# Altium footprint library LQFP.PcbLib: 4 footprints
Each footprint in its own frame and in the unit in brackets; x right, y up, seen from the top. Pads: shape width x height; smd on the part's side, far side on the other; paste and mask are expansions set on the pad; w line width, h text height; cw(c..) or ccw(c..) is an arc to the next point about the centre after c.
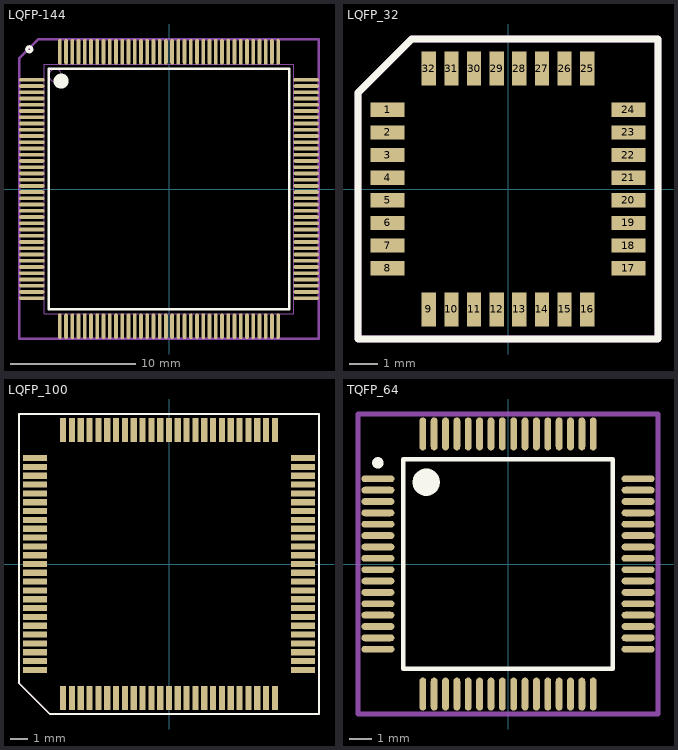
[diagram p0: the footprints below, top view; thin cyan lines are the x and y axes]

## LQFP-144 [mm]
height 2.45
pads (144):
  oval 2.05x0.3 smd: 1(-11,8.75) 2(-11,8.25) 3(-11,7.75) 4(-11,7.25) 5(-11,6.75) 6(-11,6.25) 7(-11,5.75) 8(-11,5.25) 9(-11,4.75) 10(-11,4.25) 11(-11,3.75) 12(-11,3.25) 13(-11,2.75) 14(-11,2.25) 15(-11,1.75) 16(-11,1.25) 17(-11,0.75) 18(-11,0.25) 19(-11,-0.25) 20(-11,-0.75) 21(-11,-1.25) 22(-11,-1.75) 23(-11,-2.25) 24(-11,-2.75) 25(-11,-3.25) 26(-11,-3.75) 27(-11,-4.25) 28(-11,-4.75) 29(-11,-5.25) 30(-11,-5.75) 31(-11,-6.25) 32(-11,-6.75) 33(-11,-7.25) 34(-11,-7.75) 35(-11,-8.25) 36(-11,-8.75) 73(11,-8.75) 74(11,-8.25) 75(11,-7.75) 76(11,-7.25) 77(11,-6.75) 78(11,-6.25) 79(11,-5.75) 80(11,-5.25) 81(11,-4.75) 82(11,-4.25) 83(11,-3.75) 84(11,-3.25) 85(11,-2.75) 86(11,-2.25) 87(11,-1.75) 88(11,-1.25) 89(11,-0.75) 90(11,-0.25) 91(11,0.25) 92(11,0.75) 93(11,1.25) 94(11,1.75) 95(11,2.25) 96(11,2.75) 97(11,3.25) 98(11,3.75) 99(11,4.25) 100(11,4.75) 101(11,5.25) 102(11,5.75) 103(11,6.25) 104(11,6.75) 105(11,7.25) 106(11,7.75) 107(11,8.25) 108(11,8.75)
  oval 0.3x2.05 smd: 37(-8.75,-11) 38(-8.25,-11) 39(-7.75,-11) 40(-7.25,-11) 41(-6.75,-11) 42(-6.25,-11) 43(-5.75,-11) 44(-5.25,-11) 45(-4.75,-11) 46(-4.25,-11) 47(-3.75,-11) 48(-3.25,-11) 49(-2.75,-11) 50(-2.25,-11) 51(-1.75,-11) 52(-1.25,-11) 53(-0.75,-11) 54(-0.25,-11) 55(0.25,-11) 56(0.75,-11) 57(1.25,-11) 58(1.75,-11) 59(2.25,-11) 60(2.75,-11) 61(3.25,-11) 62(3.75,-11) 63(4.25,-11) 64(4.75,-11) 65(5.25,-11) 66(5.75,-11) 67(6.25,-11) 68(6.75,-11) 69(7.25,-11) 70(7.75,-11) 71(8.25,-11) 72(8.75,-11) 109(8.75,11) 110(8.25,11) 111(7.75,11) 112(7.25,11) 113(6.75,11) 114(6.25,11) 115(5.75,11) 116(5.25,11) 117(4.75,11) 118(4.25,11) 119(3.75,11) 120(3.25,11) 121(2.75,11) 122(2.25,11) 123(1.75,11) 124(1.25,11) 125(0.75,11) 126(0.25,11) 127(-0.25,11) 128(-0.75,11) 129(-1.25,11) 130(-1.75,11) 131(-2.25,11) 132(-2.75,11) 133(-3.25,11) 134(-3.75,11) 135(-4.25,11) 136(-4.75,11) 137(-5.25,11) 138(-5.75,11) 139(-6.25,11) 140(-6.75,11) 141(-7.25,11) 142(-7.75,11) 143(-8.25,11) 144(-8.75,11)
Top Overlay:
  circle w0.6: c-8.65,8.65 r0.3
  circle w0.25: c-11.2,11.2 r0.2
  lines w0.2: -9.65,-9.65 -9.65,9.65 9.65,9.65 9.65,-9.65 -9.65,-9.65
TopAssy:
  lines w0.2: -12,-12 12,-12 12,12 -10.5,12 -12,10.5 -12,-12
  text ".Designator" at -6.5,-0.5 h1.52
Mechanical 13:
  circle w0.1: c-9.1,9.1 r0.5
  lines w0.1: -10,-10 -10,10 10,10 10,-10 -10,-10
3D body "QFN144.step": height 1.63, standoff 0.03, extent -11,-11 11,11

## LQFP_32 [mm]
pads (32):
  rect 1.2x0.5 smd: 1(-4.25,2.8) 2(-4.25,2) 3(-4.25,1.2) 4(-4.25,0.4) 5(-4.25,-0.4) 6(-4.25,-1.2) 7(-4.25,-2) 8(-4.25,-2.8) 17(4.25,-2.8) 18(4.25,-2) 19(4.25,-1.2) 20(4.25,-0.4) 21(4.25,0.4) 22(4.25,1.2) 23(4.25,2) 24(4.25,2.8)
  rect 0.5x1.2 smd: 9(-2.8,-4.25) 10(-2,-4.25) 11(-1.2,-4.25) 12(-0.4,-4.25) 13(0.4,-4.25) 14(1.2,-4.25) 15(2,-4.25) 16(2.8,-4.25) 25(2.8,4.25) 26(2,4.25) 27(1.2,4.25) 28(0.4,4.25) 29(-0.4,4.25) 30(-1.2,4.25) 31(-2,4.25) 32(-2.8,4.25)
Top Overlay:
  lines w0.254: -5.3,-5.3 -5.3,3.4 -3.4,5.3 5.3,5.3 5.3,-5.3 -5.3,-5.3
TopAssy:
  lines w0.254: -5.3,-5.3 5.3,-5.3 5.3,5.3 -3.4,5.3 -5.3,3.4 -5.3,-5.3
  text ".Designator" at -0.7,-0.55 h1.52
3D body "LQFP32-2.STEP": height 1.62, standoff -0.01, extent -4.572,-4.572 4.572,4.572

## LQFP_100 [mm]
pads (100):
  rect 0.35x1.35 smd: 1(-6,-7.6) 2(-5.5,-7.6) 3(-5,-7.6) 4(-4.5,-7.6) 5(-4,-7.6) 6(-3.5,-7.6) 7(-3,-7.6) 8(-2.5,-7.6) 9(-2,-7.6) 10(-1.5,-7.6) 11(-1,-7.6) 12(-0.5,-7.6) 13(0,-7.6) 14(0.5,-7.6) 15(1,-7.6) 16(1.5,-7.6) 17(2,-7.6) 18(2.5,-7.6) 19(3,-7.6) 20(3.5,-7.6) 21(4,-7.6) 22(4.5,-7.6) 23(5,-7.6) 24(5.5,-7.6) 25(6,-7.6) 51(6,7.6) 52(5.5,7.6) 53(5,7.6) 54(4.5,7.6) 55(4,7.6) 56(3.5,7.6) 57(3,7.6) 58(2.5,7.6) 59(2,7.6) 60(1.5,7.6) 61(1,7.6) 62(0.5,7.6) 63(0,7.6) 64(-0.5,7.6) 65(-1,7.6) 66(-1.5,7.6) 67(-2,7.6) 68(-2.5,7.6) 69(-3,7.6) 70(-3.5,7.6) 71(-4,7.6) 72(-4.5,7.6) 73(-5,7.6) 74(-5.5,7.6) 75(-6,7.6)
  rect 1.35x0.35 smd: 26(7.6,-6) 27(7.6,-5.5) 28(7.6,-5) 29(7.6,-4.5) 30(7.6,-4) 31(7.6,-3.5) 32(7.6,-3) 33(7.6,-2.5) 34(7.6,-2) 35(7.6,-1.5) 36(7.6,-1) 37(7.6,-0.5) 38(7.6,0) 39(7.6,0.5) 40(7.6,1) 41(7.6,1.5) 42(7.6,2) 43(7.6,2.5) 44(7.6,3) 45(7.6,3.5) 46(7.6,4) 47(7.6,4.5) 48(7.6,5) 49(7.6,5.5) 50(7.6,6) 76(-7.6,6) 77(-7.6,5.5) 78(-7.6,5) 79(-7.6,4.5) 80(-7.6,4) 81(-7.6,3.5) 82(-7.6,3) 83(-7.6,2.5) 84(-7.6,2) 85(-7.6,1.5) 86(-7.6,1) 87(-7.6,0.5) 88(-7.6,0) 89(-7.6,-0.5) 90(-7.6,-1) 91(-7.6,-1.5) 92(-7.6,-2) 93(-7.6,-2.5) 94(-7.6,-3) 95(-7.6,-3.5) 96(-7.6,-4) 97(-7.6,-4.5) 98(-7.6,-5) 99(-7.6,-5.5) 100(-7.6,-6)
Top Overlay:
  lines w0.1: -8.5,-6.75 -6.75,-8.5 8.5,-8.5 8.5,8.5 -8.5,8.5 -8.5,-6.75
TopAssy:
  lines w0.1: -8.5,-6.75 -8.5,8.5 8.5,8.5 8.5,-8.5 -6.75,-8.5 -8.5,-6.75
  text ".Designator" at -0.5,-0.75 h1.52
3D body "LQFP100-5.step": height 1.5, standoff -0.02, extent -8.004,-8.004 8.005,8.005

## TQFP_64 [mm]
height 1.6
pads (64):
  oval 1.45x0.3 smd: 1(-5.725,3.75) 2(-5.725,3.25) 3(-5.725,2.75) 4(-5.725,2.25) 5(-5.725,1.75) 6(-5.725,1.25) 7(-5.725,0.75) 8(-5.725,0.25) 9(-5.725,-0.25) 10(-5.725,-0.75) 11(-5.725,-1.25) 12(-5.725,-1.75) 13(-5.725,-2.25) 14(-5.725,-2.75) 15(-5.725,-3.25) 16(-5.725,-3.75) 33(5.725,-3.75) 34(5.725,-3.25) 35(5.725,-2.75) 36(5.725,-2.25) 37(5.725,-1.75) 38(5.725,-1.25) 39(5.725,-0.75) 40(5.725,-0.25) 41(5.725,0.25) 42(5.725,0.75) 43(5.725,1.25) 44(5.725,1.75) 45(5.725,2.25) 46(5.725,2.75) 47(5.725,3.25) 48(5.725,3.75)
  oval 0.3x1.45 smd: 17(-3.75,-5.725) 18(-3.25,-5.725) 19(-2.75,-5.725) 20(-2.25,-5.725) 21(-1.75,-5.725) 22(-1.25,-5.725) 23(-0.75,-5.725) 24(-0.25,-5.725) 25(0.25,-5.725) 26(0.75,-5.725) 27(1.25,-5.725) 28(1.75,-5.725) 29(2.25,-5.725) 30(2.75,-5.725) 31(3.25,-5.725) 32(3.75,-5.725) 49(3.75,5.725) 50(3.25,5.725) 51(2.75,5.725) 52(2.25,5.725) 53(1.75,5.725) 54(1.25,5.725) 55(0.75,5.725) 56(0.25,5.725) 57(-0.25,5.725) 58(-0.75,5.725) 59(-1.25,5.725) 60(-1.75,5.725) 61(-2.25,5.725) 62(-2.75,5.725) 63(-3.25,5.725) 64(-3.75,5.725)
Top Overlay:
  circle w0.6: c-3.6,3.6 r0.3
  circle w0.25: c-5.725,4.45 r0.125
  lines w0.2: -4.6,-4.6 4.6,-4.6 4.6,4.6 -4.6,4.6 -4.6,-4.6
TopAssy:
  lines w0.2: -6.6,-6.6 -6.6,6.6 6.6,6.6 6.6,-6.6 -6.6,-6.6
  text ".Designator" at -2.4,-0.1 h1
3D body "TQFP64_05 package.step": height 1.2, standoff 0, extent -6.048,-6.048 6.048,6.048